# Altium schematic symbol library SebVLibr.SchLib: 32 symbols
Pins are listed as number, name and electrical type; pins without a type are passive.

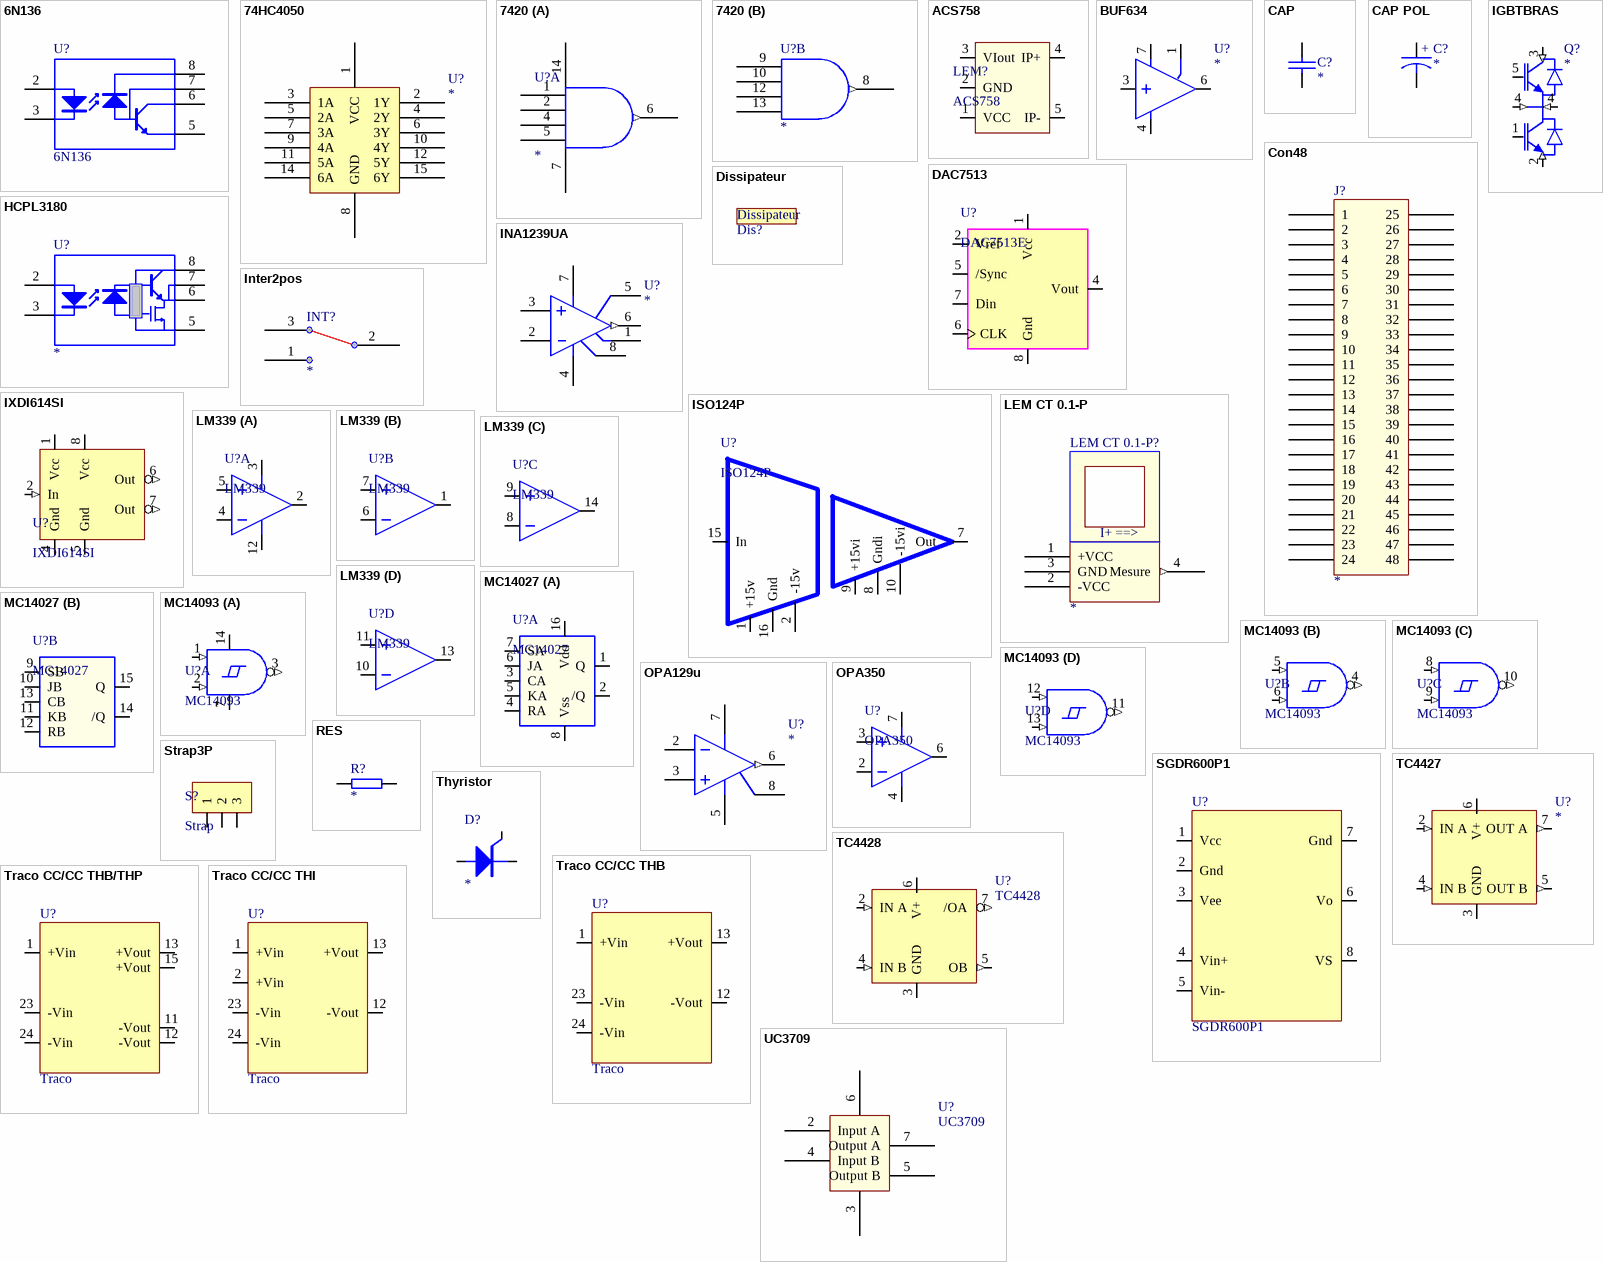
[diagram p0: symbols 6N136 to UC3709]

## 6N136
designator U?
footprint Dip8
pins: 2 A, 3 K, 5 Vee, 6 Out, 7 Out, 8 VCC (power)

## 74HC4050
designator U?
6 buffer
footprint dip16
pins: 1 VCC (power), 2 1Y, 3 1A, 4 2Y, 5 2A, 6 3Y, 7 3A, 8 GND (power), 9 4A, 10 4Y, 11 5A, 12 5Y, 13 nc hidden, 14 6A, 15 6Y, 16 nc hidden

## 7420
designator U?
2 NAND 4 ENTREE
footprint DIP14
part A pins: 1, 2, 3 NC hidden, 4, 5, 6 (out), 7 GND, 14 VCC
part B pins: 8 (out), 9, 10, 11 NC hidden, 12, 13

## ACS758
designator LEM?
footprint ACS758PFF
pins: 1 VCC, 2 GND, 3 VIout, 4 IP+, 5 IP-

## BUF634
designator U?
footprint DIP8
footprint SO-8
pins: 1, 3, 4 V-, 6, 7 V+

## CAP
designator C?
footprint C1206C
footprint RAD0.2_2
footprint RAD0.2_1
pins: 1, 2

## CAP POL
designator C?
footprint RB.2/.4
footprint RB.2/.6
footprint RB.1/.3
footprint RB.3/.9
footprint RB.4/.18
footprint RB.5/.18
pins: 1, 2
text: +

## Con48
designator J?
pins: 1, 2, 3, 4, 5, 6, 7, 8, 9, 10, 11, 12, 13, 14, 15, 16, 17, 18, 19, 20, 21, 22, 23, 24, 25, 26, 27, 28, 29, 30, 31, 32, 33, 34, 35, 36, 37, 38, 39, 40, 41, 42, 43, 44, 45, 46, 47, 48

## DAC7513
designator U?, comment DAC7513E
footprint MSOP-8
pins: 1 Vcc, 2 Vref, 4 Vout, 5 /Sync, 6 CLK, 7 Din, 8 Gnd

## Dissipateur
designator Dis?  (value not drawn)
footprint Dis2.7c/W (Dissipateur TO218;TO220;TO248)

## HCPL3180
designator U?
Optocoupleur
footprint DIP8
footprint SO-8 - 300
pins: 2 A, 3 K, 5 Vee, 6 Out, 7 Out, 8 VCC (power)

## IGBTBRAS
designator Q?
pins: 1 GB (in), 2 EB (in), 3 C (in), 4 PM (in), 4 PM (in), 5 GH (in)

## INA1239UA
designator U?
footprint SO-8
pins: 1, 2 IN-, 3 IN+, 4 V-, 5 V-, 6 OUT (out), 7 V+, 8 Substrate

## Inter2pos
designator INT?
Interrupteur deux positions
footprint IntVer
pins: 1 "ChoixA", 2 "Signal", 3 "Choix B"

## ISO124P
designator U?
footprint DIP16
pins: 1 +15v, 2 -15v, 7 Out  , 8 Gndi, 9 +15vi, 10 -15vi, 15 In, 16 Gnd

## IXDI614SI
designator U?
footprint SO-8
pins: 1 Vcc (power), 2 In (in), 4 Gnd (power), 5 Gnd (power), 6 Out (out), 7 Out (out), 8 Vcc (power)

## LEM CT 0.1-P
designator LEM CT 0.1-P?
pins: 1 +VCC (power), 2 -VCC (power), 3 GND (power), 4 Mesure (out)
text: I+ ==>

## LM339
designator U?
footprint SO-14
footprint DIP14
part A pins: 2 S, 3 V+, 4 -, 5 +, 12 V-
part B pins: 1 S, 6 -, 7 +
part C pins: 8 -, 9 +, 14 S
part D pins: 10 -, 11 +, 13 S

## MC14027
designator U?
footprint SO-16
footprint DIP16
part A pins: 1 Q, 2 /Q, 3 CA, 4 RA, 5 KA, 6 JA, 7 SA, 8 Vss, 16 Vdd
part B pins: 9 SB, 10 JB, 11 KB, 12 RB, 13 CB, 14 /Q, 15 Q

## MC14093
designator U?
part A pins: 1 (in), 2 (in), 3 (out), 7 vss (power), 14 vdd (power)
part B pins: 4 (out), 5 (in), 6 (in)
part C pins: 8 (in), 9 (in), 10 (out)
part D pins: 11 (out), 12 (in), 13 (in)

## OPA129u
designator U?
footprint SO-8
pins: 1 NC hidden, 2 IN-, 3 IN+, 4 NC hidden, 5 V-, 6 OUT (out), 7 V+, 8 Substrate

## OPA350
designator U?
footprint DIP8
footprint SO-8
footprint MSOP-8
pins: 2 -, 3 +, 4 V-, 6 S, 7 V+

## RES
designator R?
footprint AXIAL0.4
footprint AXIAL0.5
footprint C1206R
pins: 1, 2

## SGDR600P1
designator U?
footprint SGDR600P1 (Driver pour IGBT(SiC))
pins: 1 Vcc, 2 Gnd, 3 Vee, 4 Vin+, 5 Vin-, 6 Vo, 7 Gnd, 8 VS

## Strap3P
designator S?, comment Strap
pins: 1, 2, 3

## TC4427
designator U?
footprint DIP8
footprint SO-8
pins: 2 IN A (in), 3 GND, 4 IN B (in), 5 OUT B (out), 6 V+, 7 OUT A (out)

## TC4428
designator U?
footprint DIP8
footprint SO-8
pins: 2 IN A (in), 3 GND, 4 IN B (in), 5 OB (out), 6 V+, 7 /OA (out)

## Thyristor
designator D?
pins: 1 A, 2 K, 3 G

## Traco CC/CC THB
designator U?, comment Traco
footprint THB3
pins: 1 +Vin, 12 -Vout, 13 +Vout, 23 -Vin, 24 -Vin

## Traco CC/CC THB/THP
designator U?, comment Traco
footprint THB3
pins: 1 +Vin, 11 -Vout, 12 -Vout, 13 +Vout, 15 +Vout, 23 -Vin, 24 -Vin

## Traco CC/CC THI
designator U?, comment Traco
footprint THB3
pins: 1 +Vin, 2 +Vin, 12 -Vout, 13 +Vout, 23 -Vin, 24 -Vin

## UC3709
designator U?
Inverting High-Speed MOSFET Drivers
footprint dip8
pins: 1 hidden "NC", 2 Input A, 3 GND (power), 4 Input B, 5 Output B, 6 VCC, 7 Output A, 8 hidden "NC"